# EAGLE library part LCMXO2-1200ZE-1TG144C (library LCMXO2-1200ZE-1TG144C)
LATTICE SEMICONDUCTOR - LCMXO2-1200ZE-1TG144C - CPLD, MachXO2 Series, FLASH, 1200, 108 I/O's, TQFP, 144 Pins, 104 MHz Source: Datasheet <https://datasheet.datasheetarchive.com/originals/distributors/Datasheets-DGA19/41708.pdf>
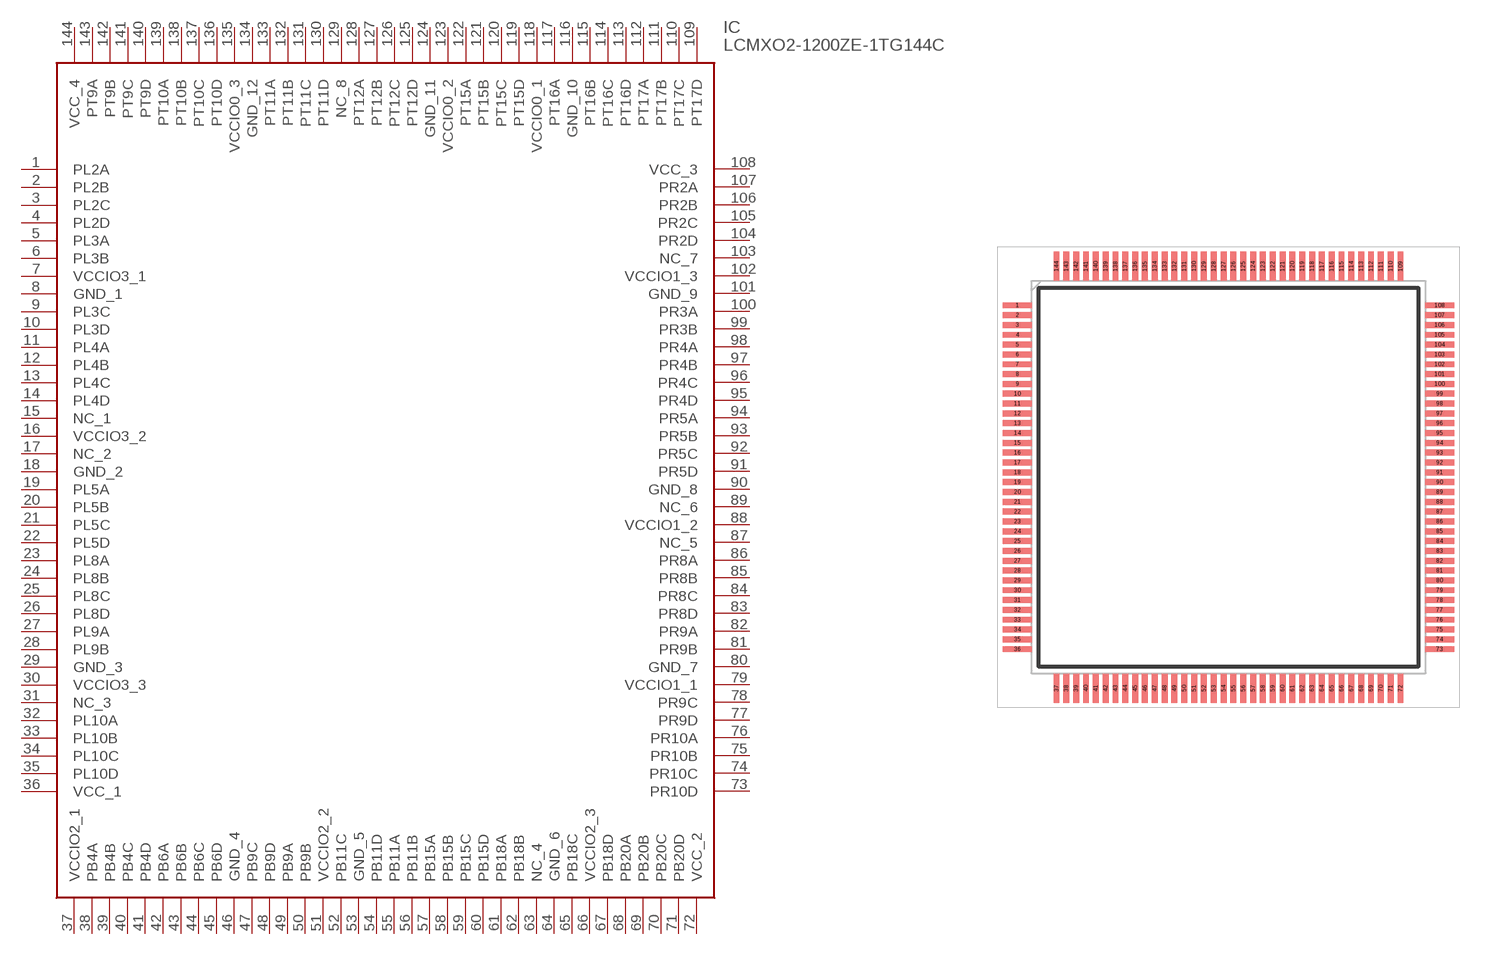
[diagram p0: symbol with the pads of QFP50P2200X2200X160-144N; footprint QFP50P2200X2200X160-144N]

Designator prefix IC

## LCMXO2-1200ZE-1TG144C (Description: LATTICE SEMICONDUCTOR - LCMXO2-1200ZE-1TG144C - CPLD, MachXO2 Series, FLASH, 1200, 108 I/O's, TQFP, 144 Pins, 104 MHz; Height: 1.6mm; Manufacturer_Name: Lattice Semiconductor; Manufacturer_Part_Number: LCMXO2-1200ZE-1TG144C; Mouser_Part_Number: 842-XO21200ZE1TG144C; Mouser_Price-Stock: https://www.mouser.co.uk/ProductDetail/Lattice/LCMXO2-1200ZE-1TG144C?qs=O0MBHUYBjj1cB46yMhs%252BbA%3D%3D)  [QFP50P2200X2200X160-144N]
1  PL2A
2  PL2B
3  PL2C
4  PL2D
5  PL3A
6  PL3B
7  VCCIO3_1
8  GND_1
9  PL3C
10  PL3D
11  PL4A
12  PL4B
13  PL4C
14  PL4D
15  NC_1
16  VCCIO3_2
17  NC_2
18  GND_2
19  PL5A
20  PL5B
21  PL5C
22  PL5D
23  PL8A
24  PL8B
25  PL8C
26  PL8D
27  PL9A
28  PL9B
29  GND_3
30  VCCIO3_3
31  NC_3
32  PL10A
33  PL10B
34  PL10C
35  PL10D
36  VCC_1
37  VCCIO2_1
38  PB4A
39  PB4B
40  PB4C
41  PB4D
42  PB6A
43  PB6B
44  PB6C
45  PB6D
46  GND_4
47  PB9C
48  PB9D
49  PB9A
50  PB9B
51  VCCIO2_2
52  PB11C
53  GND_5
54  PB11D
55  PB11A
56  PB11B
57  PB15A
58  PB15B
59  PB15C
60  PB15D
61  PB18A
62  PB18B
63  NC_4
64  GND_6
65  PB18C
66  VCCIO2_3
67  PB18D
68  PB20A
69  PB20B
70  PB20C
71  PB20D
72  VCC_2
73  PR10D
74  PR10C
75  PR10B
76  PR10A
77  PR9D
78  PR9C
79  VCCIO1_1
80  GND_7
81  PR9B
82  PR9A
83  PR8D
84  PR8C
85  PR8B
86  PR8A
87  NC_5
88  VCCIO1_2
89  NC_6
90  GND_8
91  PR5D
92  PR5C
93  PR5B
94  PR5A
95  PR4D
96  PR4C
97  PR4B
98  PR4A
99  PR3B
100  PR3A
101  GND_9
102  VCCIO1_3
103  NC_7
104  PR2D
105  PR2C
106  PR2B
107  PR2A
108  VCC_3
109  PT17D
110  PT17C
111  PT17B
112  PT17A
113  PT16D
114  PT16C
115  PT16B
116  GND_10
117  PT16A
118  VCCIO0_1
119  PT15D
120  PT15C
121  PT15B
122  PT15A
123  VCCIO0_2
124  GND_11
125  PT12D
126  PT12C
127  PT12B
128  PT12A
129  NC_8
130  PT11D
131  PT11C
132  PT11B
133  PT11A
134  GND_12
135  VCCIO0_3
136  PT10D
137  PT10C
138  PT10B
139  PT10A
140  PT9D
141  PT9C
142  PT9B
143  PT9A
144  VCC_4

## Footprint QFP50P2200X2200X160-144N (pad centres in mm)
144-Pin TQFP Package_2021
smd 1.475 x 0.3: 1 -10.738,8.75; 2 -10.738,8.25; 3 -10.738,7.75; 4 -10.738,7.25; 5 -10.738,6.75; 6 -10.738,6.25; 7 -10.738,5.75; 8 -10.738,5.25; 9 -10.738,4.75; 10 -10.738,4.25; 11 -10.738,3.75; 12 -10.738,3.25; 13 -10.738,2.75; 14 -10.738,2.25; 15 -10.738,1.75; 16 -10.738,1.25; 17 -10.738,0.75; 18 -10.738,0.25; 19 -10.738,-0.25; 20 -10.738,-0.75; 21 -10.738,-1.25; 22 -10.738,-1.75; 23 -10.738,-2.25; 24 -10.738,-2.75; 25 -10.738,-3.25; 26 -10.738,-3.75; 27 -10.738,-4.25; 28 -10.738,-4.75; 29 -10.738,-5.25; 30 -10.738,-5.75; 31 -10.738,-6.25; 32 -10.738,-6.75; 33 -10.738,-7.25; 34 -10.738,-7.75; 35 -10.738,-8.25; 36 -10.738,-8.75; 73 10.738,-8.75; 74 10.738,-8.25; 75 10.738,-7.75; 76 10.738,-7.25; 77 10.738,-6.75; 78 10.738,-6.25; 79 10.738,-5.75; 80 10.738,-5.25; 81 10.738,-4.75; 82 10.738,-4.25; 83 10.738,-3.75; 84 10.738,-3.25; 85 10.738,-2.75; 86 10.738,-2.25; 87 10.738,-1.75; 88 10.738,-1.25; 89 10.738,-0.75; 90 10.738,-0.25; 91 10.738,0.25; 92 10.738,0.75; 93 10.738,1.25; 94 10.738,1.75; 95 10.738,2.25; 96 10.738,2.75; 97 10.738,3.25; 98 10.738,3.75; 99 10.738,4.25; 100 10.738,4.75; 101 10.738,5.25; 102 10.738,5.75; 103 10.738,6.25; 104 10.738,6.75; 105 10.738,7.25; 106 10.738,7.75; 107 10.738,8.25; 108 10.738,8.75
smd 0.3 x 1.475: 37 -8.75,-10.738; 38 -8.25,-10.738; 39 -7.75,-10.738; 40 -7.25,-10.738; 41 -6.75,-10.738; 42 -6.25,-10.738; 43 -5.75,-10.738; 44 -5.25,-10.738; 45 -4.75,-10.738; 46 -4.25,-10.738; 47 -3.75,-10.738; 48 -3.25,-10.738; 49 -2.75,-10.738; 50 -2.25,-10.738; 51 -1.75,-10.738; 52 -1.25,-10.738; 53 -0.75,-10.738; 54 -0.25,-10.738; 55 0.25,-10.738; 56 0.75,-10.738; 57 1.25,-10.738; 58 1.75,-10.738; 59 2.25,-10.738; 60 2.75,-10.738; 61 3.25,-10.738; 62 3.75,-10.738; 63 4.25,-10.738; 64 4.75,-10.738; 65 5.25,-10.738; 66 5.75,-10.738; 67 6.25,-10.738; 68 6.75,-10.738; 69 7.25,-10.738; 70 7.75,-10.738; 71 8.25,-10.738; 72 8.75,-10.738; 109 8.75,10.738; 110 8.25,10.738; 111 7.75,10.738; 112 7.25,10.738; 113 6.75,10.738; 114 6.25,10.738; 115 5.75,10.738; 116 5.25,10.738; 117 4.75,10.738; 118 4.25,10.738; 119 3.75,10.738; 120 3.25,10.738; 121 2.75,10.738; 122 2.25,10.738; 123 1.75,10.738; 124 1.25,10.738; 125 0.75,10.738; 126 0.25,10.738; 127 -0.25,10.738; 128 -0.75,10.738; 129 -1.25,10.738; 130 -1.75,10.738; 131 -2.25,10.738; 132 -2.75,10.738; 133 -3.25,10.738; 134 -3.75,10.738; 135 -4.25,10.738; 136 -4.75,10.738; 137 -5.25,10.738; 138 -5.75,10.738; 139 -6.25,10.738; 140 -6.75,10.738; 141 -7.25,10.738; 142 -7.75,10.738; 143 -8.25,10.738; 144 -8.75,10.738